# Altium footprint library Footprints.PcbLib: 54 footprints (part 1 of 4)
Each footprint in its own frame and in the unit in brackets; x right, y up, seen from the top. Pads: shape width x height; smd on the part's side, far side on the other; paste and mask are expansions set on the pad; w line width, h text height; cw(c..) or ccw(c..) is an arc to the next point about the centre after c.
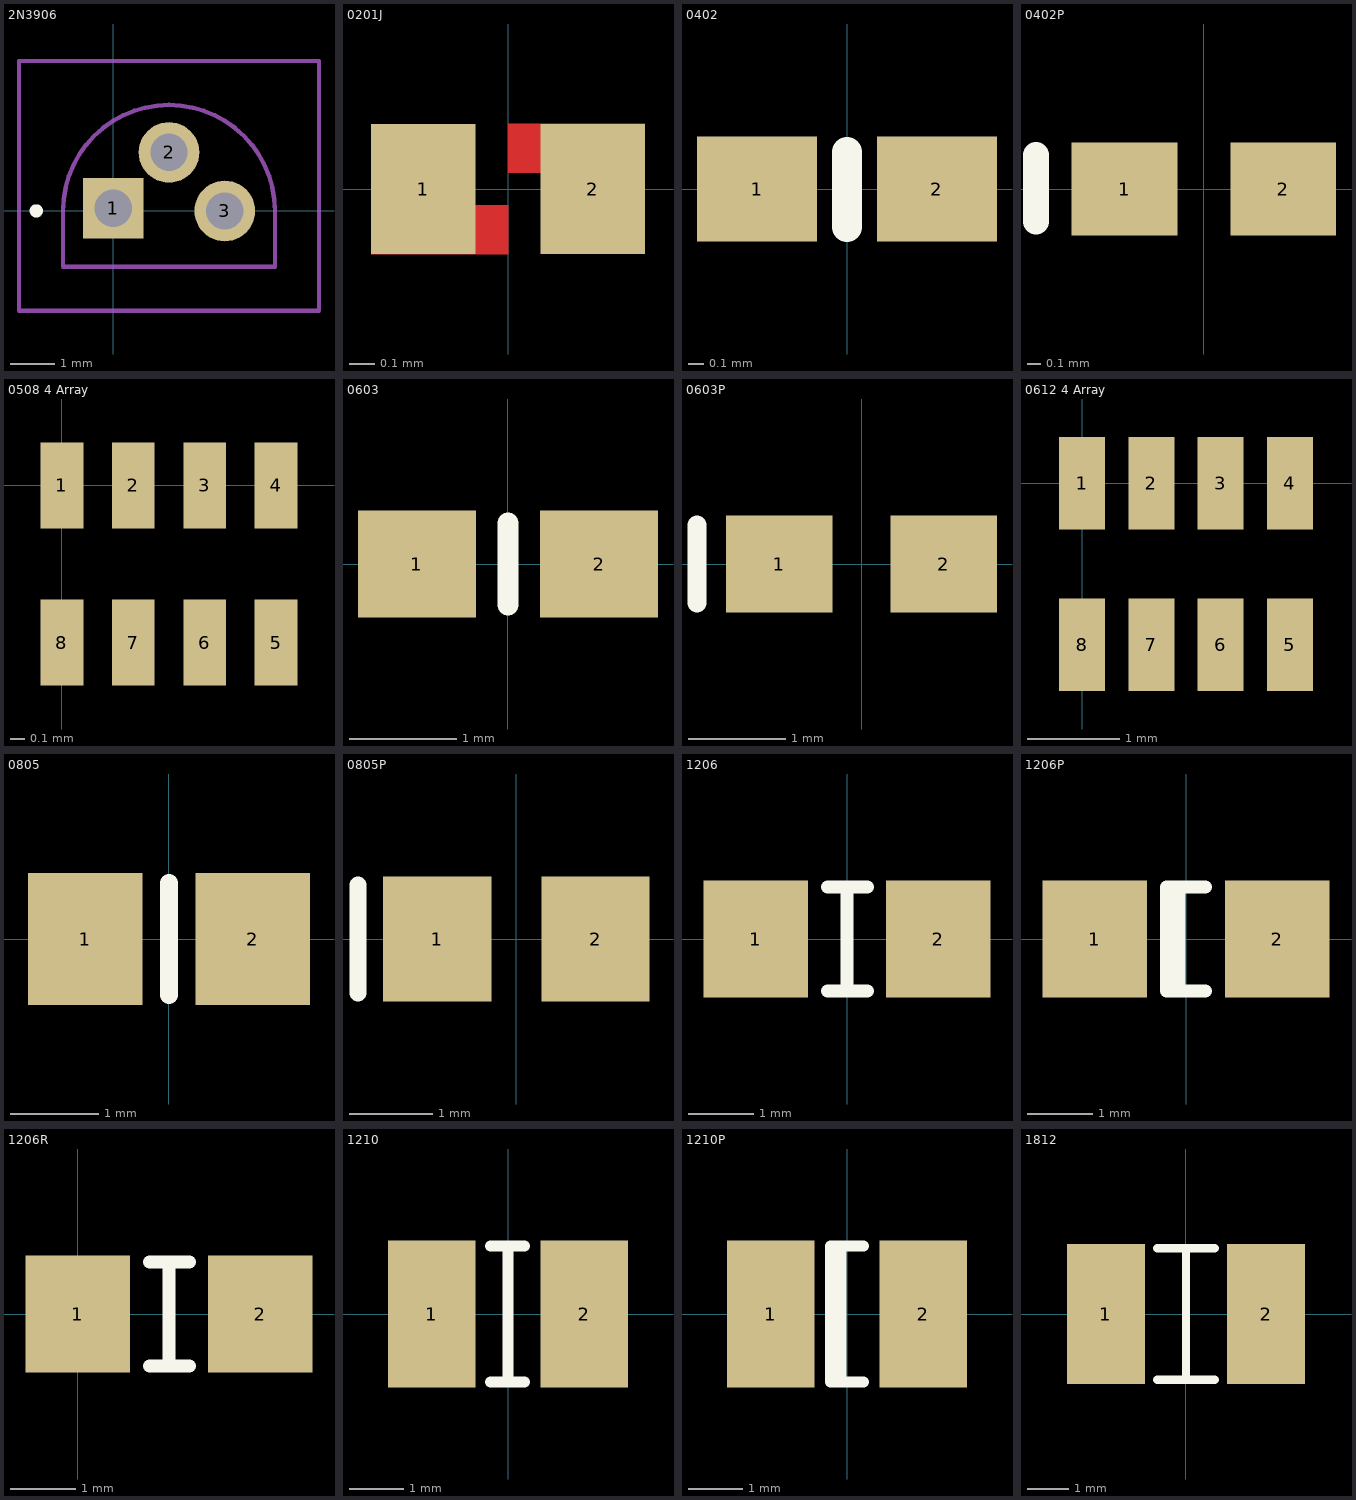
[diagram p0: the footprints below, top view; thin cyan lines are the x and y axes]

## 2N3906 [mm]
pads (3):
  rect 1.381x1.381 hole 0.85: 1(0,0.063)
  round 1.381 hole 0.85: 2(1.27,1.333) 3(2.54,0)
Top Overlay:
  lines w0.2: -1.8,0 cw(c-1.75,0) -1.7,0 ; -1.8,0 ccw(c-1.75,0) -1.7,0 ; -1.8,0 cw(c-1.75,0) -1.7,0
Mechanical 15:
  lines w0.1: -1.143,-1.272 -1.143,0 cw(c1.27,0) 3.683,0 3.683,-1.272 1.27,-1.272 -1.143,-1.272
Mechanical 20:
  lines w0.1: -2.143,-2.272 -2.143,3.413 4.683,3.413 4.683,-2.272 -2.143,-2.272

## 0201J [mil] "Solder Jumper"
height 9.84
pads (2):
  rect 16x20 smd: 1(-13,0) 2(13,0)
Top Layer:
  region: 0,2.5 21,2.5 21,10 0,10
  region: 0,-2.5 -21,-2.5 -21,-10 0,-10

## 0402 [mm] "Body 1.0 x 0.5 mm (LxW typ)"
height 0.55
pads (2):
  rect 0.8x0.7 smd: 1(-0.6,0) 2(0.6,0)
Top Overlay:
  lines w0.2: 0,-0.254 0,0.246
3D body: height 0.35, standoff 0, extent -0.5,-0.25 0.5,0.25

## 0402P [mm] "Body 1.0 x 0.5 mm (LxW typ)"
height 0.55
pads (2):
  rect 0.8x0.7 smd: 1(-0.6,0) 2(0.6,0)
Top Overlay:
  lines w0.2: -1.27,-0.246 -1.27,0.254
3D body: height 0.35, standoff 0, extent -0.5,-0.25 0.5,0.25

## 0508 4 Array [mm]
pads (8):
  rect 0.3x0.6 smd: 1(0,0) 2(0.5,0) 3(1,0) 4(1.5,0) 5(1.5,-1.1) 6(1,-1.1) 7(0.5,-1.1) 8(0,-1.1)

## 0603 [mm] "Body 1.6 x 0.8 mm (LxW typ)"
height 0.87
pads (2):
  rect 1.1x1 smd: 1(-0.85,0) 2(0.85,0)
Top Overlay:
  lines w0.2: 0,-0.381 0,0.381
3D body: height 0.5, standoff 0, extent -0.8,-0.4 0.8,0.4

## 0603P [mm] "Body 1.6 x 0.8 mm (LxW typ)"
height 0.87
pads (2):
  rect 1.1x1 smd: 1(-0.85,0) 2(0.85,0)
Top Overlay:
  lines w0.2: -1.7,-0.4 -1.7,0.4
3D body: height 0.5, standoff 0, extent -0.8,-0.4 0.8,0.4

## 0612 4 Array [mm]
pads (8):
  rect 0.5x1 smd: 1(0,0) 2(0.75,0) 3(1.5,0) 4(2.25,0) 5(2.25,-1.75) 6(1.5,-1.75) 7(0.75,-1.75) 8(0,-1.75)

## 0805 [mm] "Body 2.0 x 1.2 mm (LxW typ)"
height 1.3
pads (2):
  rect 1.3x1.5 smd: 1(-0.95,0) 2(0.95,0)
Top Overlay:
  lines w0.2: 0,-0.635 0,0.635
3D body: height 0.5, standoff 0, extent -1,-0.625 1,0.625

## 0805P [mm] "Body 2.0 x 1.2 mm (LxW typ)"
height 1.3
pads (2):
  rect 1.3x1.5 smd: 1(-0.95,0) 2(0.95,0)
Top Overlay:
  lines w0.2: -1.9,-0.65 -1.9,0.65
3D body: height 0.5, standoff 0, extent -1,-0.625 1,0.625

## 1206 [mm] "Body 3.2 x 1.6 mm (LxW typ)"
height 1.5
pads (2):
  rect 1.6x1.8 smd: 1(-1.4,0) 2(1.4,0)
Top Overlay:
  lines w0.2: -0.3,-0.8 0,-0.8 0,0.8 -0.3,0.8 ; 0.018,-0.8 0.318,-0.8 ; 0.018,0.8 0.318,0.8
3D body: height 1.6, standoff 0, extent -1.6,-0.8 1.6,0.8

## 1206P [mm] "Body 3.2 x 1.6 mm (LxW typ)"
height 1.5
pads (2):
  rect 1.6x1.8 smd: 1(-1.4,0) 2(1.4,0)
Top Overlay:
  lines w0.2: -0.11,-0.8 -0.11,0.8 ; 0.3,-0.8 -0.3,-0.8 -0.3,0.8 0.3,0.8
3D body: height 1.6, standoff 0, extent -1.6,-0.8 1.6,0.8

## 1206R [mm]
pads (2):
  rect 1.6x1.8 smd: 1(0,0) 2(2.8,0)
Top Overlay:
  lines w0.2: 1.1,-0.8 1.4,-0.8 1.4,0.8 1.1,0.8 ; 1.418,-0.8 1.717,-0.8 ; 1.418,0.8 1.717,0.8
3D body: height 0.6, standoff 0, extent -0.2,-0.8 3,0.8

## 1210 [mm] "Body 3.2 x 2.5 mm (LxW typ)"
height 1.7
pads (2):
  rect 1.6x2.7 smd: 1(-1.4,0) 2(1.4,0)
Top Overlay:
  lines w0.2: -0.318,-1.25 -0.018,-1.25 ; -0.318,1.25 -0.018,1.25 ; 0.3,-1.25 0,-1.25 0,1.25 0.3,1.25

## 1210P [mm] "Body 3.2 x 2.5 mm (LxW typ)"
height 1.7
pads (2):
  rect 1.6x2.7 smd: 1(-1.4,0) 2(1.4,0)
Top Overlay:
  lines w0.2: -0.11,-1.25 -0.11,1.25 ; 0.3,-1.25 -0.3,-1.25 -0.3,1.25 0.3,1.25

## 1812 [mm] "Body 4.5 x 3.2 mm (LxW typ)"
height 1.7
pads (2):
  rect 1.9x3.4 smd: 1(-1.95,0) 2(1.95,0)
Top Overlay:
  lines w0.2: -0.7,-1.6 0.7,-1.6 ; -0.7,1.6 0.7,1.6 ; -0.002,-1.6 -0.002,1.6